# EAGLE library part SI7232DN-T1-GE3 (library SI7232DN-T1-GE3)
Dual N-Channel (D-S)MOSFET 20V Vds 8V Vgs PowerPAK 1212-8 Source: Datasheet <https://www.vishay.com/docs/68986/si7232dn.pdf>
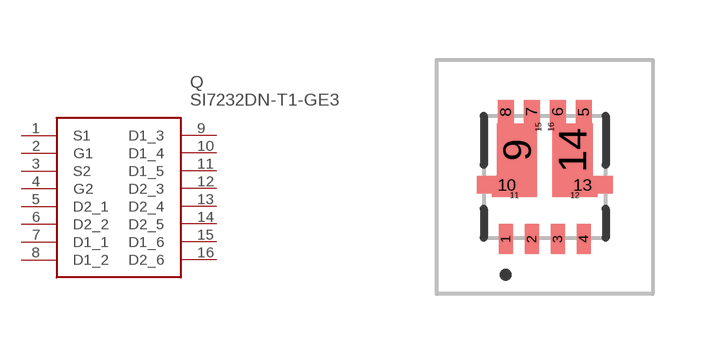
[diagram p0: symbol with the pads of SI7232DNT1GE3; footprint SI7232DNT1GE3]

Designator prefix Q

## SI7232DN-T1-GE3 (Description: Dual N-Channel (D-S)MOSFET 20V Vds 8V Vgs PowerPAK 1212-8; Height: 1.12mm; Manufacturer_Name: Vishay; Manufacturer_Part_Number: SI7232DN-T1-GE3; Mouser_Part_Number: 781-SI7232DN-GE3; Mouser_Price-Stock: https://www.mouser.co.uk/ProductDetail/Vishay-Semiconductors/SI7232DN-T1-GE3?qs=%252BPu8jn5UVnH5FJ8Jo4EbFw%3D%3D)  [SI7232DNT1GE3]
1  S1
2  G1
3  S2
4  G2
5  D2_1
6  D2_2
7  D1_1
8  D1_2
9  D1_3
10  D1_4
11  D1_5
12  D2_3
13  D2_4
14  D2_5
15  D1_6
16  D2_6

## Footprint SI7232DNT1GE3 (pad centres in mm)
PowerPAK1212-8_2021
smd 0.35 x 0.76: 1 -0.975,-1.55; 2 -0.325,-1.55; 3 0.325,-1.55; 4 0.975,-1.55
smd 0.4 x 0.6: 5 0.975,1.63; 6 0.325,1.63; 7 -0.325,1.63; 8 -0.975,1.63
smd 1.01 x 1.31: 9 -0.695,0.675; 14 0.695,0.675
smd 1.51 x 0.43: 10 -0.945,-0.195; 13 0.945,-0.195
smd 1.13 x 0.09: 11 -0.755,-0.455; 12 0.755,-0.455
smd 0.065 x 0.16: 15 -0.158,1.25; 16 0.158,1.25